# EAGLE library part NB3N502 (library m1dst)
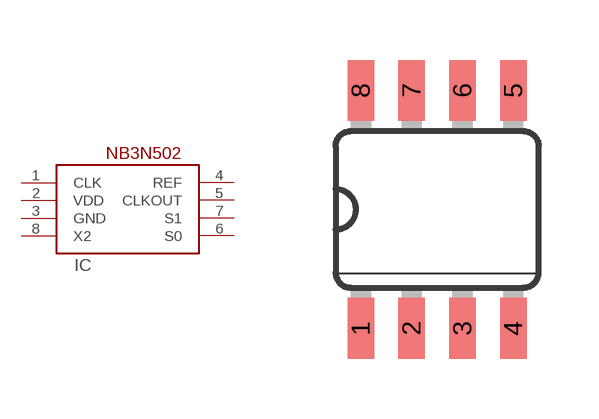
[diagram p12: symbol with the pads of SO08-SKINNYPADS; footprint SO08-SKINNYPADS]

Designator prefix IC

## NB3N502-SOP8  [SO08-SKINNYPADS]
1  CLK  out
2  VDD  pwr
3  GND  pwr
4  REF  in
5  CLKOUT  out
6  S0  out
7  S1  in
8  X2  in

## Footprint SO08-SKINNYPADS (pad centres in mm)
smd 0.66 x 1.524: 1 -1.905,-2.973; 2 -0.635,-2.973; 3 0.635,-2.973; 4 1.905,-2.973; 5 1.905,2.973; 6 0.635,2.973; 7 -0.635,2.973; 8 -1.905,2.973